# EAGLE library part 1554ТР2 (library std-logic-1554series)
АЕЯР.431200.182-06 ТУ 1554ТР2 - Четыре R-S триггера. Изготовитель: ОАО "ИНТЕГРАЛ", г. Минск, р. Беларусь. Технические условия (ТБМ): АЕЯР.431200.182-06 ТУ Технические условия (не ТБМ): АЕЯР.431200.093-01 ТУ
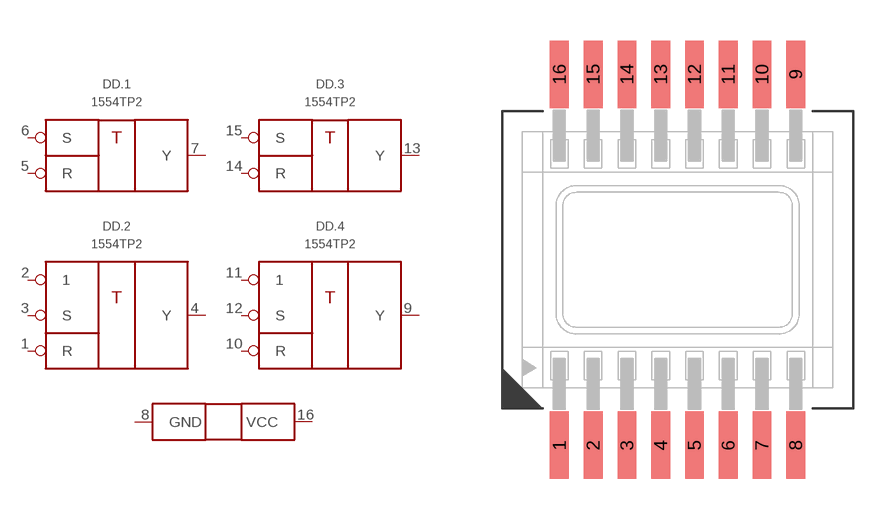
[diagram p2: symbol with the pads of 402.16-32; footprint 402.16-32]

Designator prefix DD; gates .1=1554ТР2_1 .2=1554ТР2_2 .3=1554ТР2_1 .4=1554ТР2_2 G$4=1554_PWR1

## 1554ТР2ТБМ  [402.16-32]
1  .2:R  in
2  .2:1  in
3  .2:S  in
4  .2:Y  out
5  .1:R  in
6  .1:S  in
7  .1:Y  out
8  G$4:GND  pwr
9  .4:Y  out
10  .4:R  in
11  .4:1  in
12  .4:S  in
13  .3:Y  out
14  .3:R  in
15  .3:S  in
16  G$4:VCC  pwr

## Footprint 402.16-32 (pad centres in mm)
smd 0.7 x 2.5: 1 -4.375,-6.875; 2 -3.125,-6.875; 3 -1.875,-6.875; 4 -0.625,-6.875; 5 0.625,-6.875; 6 1.875,-6.875; 7 3.125,-6.875; 8 4.375,-6.875; 9 4.375,6.875; 10 3.125,6.875; 11 1.875,6.875; 12 0.625,6.875; 13 -0.625,6.875; 14 -1.875,6.875; 15 -3.125,6.875; 16 -4.375,6.875